# Altium schematic symbol library Logic-ICs.SchLib: 3 symbols
Pins are listed as number, name and electrical type; pins without a type are passive.

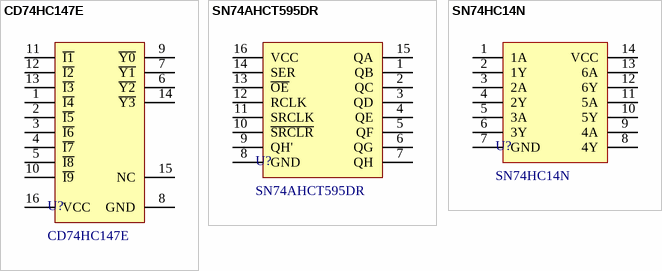
[diagram p0: symbols CD74HC147E to SN74HC14N]

## CD74HC147E
designator U?
IC PRIORITY ENCOD 1 X 10:4 16DIP; Manufacturer: Texas Instruments; Package Body Material: Plastic; Output Polarity: True; Logic Type: ENCODER; Number of Bits: 9; Channels: 1; Propagation Delay (tpd): 240ns; Max Supply Voltage: 6V; Min Supply Voltage: 2V; Nominal Supply Voltage: 4.5V; Surface Mount: No; Package Equivalence Code: DIP16,.3; Power Supplies: 2/6V; Qualification Status: Not Qualified; Supplier: Digikey; Supplier Part Number: 296-14513-5-ND; Manufacturer Part Number: CD74HC147E; RoHS: Yes; Category: Logic ICs; Stock: 2286; Pricing: 1=0.48, 10=0.424, 25=0.3984, 100=0.3251, 250=0.302, 500=0.25702, 1000=0.22625 (USD); Case/Package: DIP; Pins: 16; Package Shape: Rectangular; Terminal Finish: Nickel; Min Operating Temperature: -55°C; Max Operating Temperature: 125°C; JESD-30 Code: R-PDIP-T16; Package Style: IN-LINEMeter; Technology: CMOS; Terminal Form: Through Hole; Terminal Position: DUAL; JESD-609 Code: e4; Length: 19.305mm; Width: 7.62mm; Height - Seated (Max): 5.08mm; Terminal Pitch: 2.54mm; Temperature Grade: MILITARY; Reach SVHC Compliant: Yes; RoHS Compliant: Yes; ComponentLink1URL: https://www.ti.com:443/lit/ds/symlink/cd54hc147.pdf?src-supplier=IHS+Markit; ComponentLink1Description: https://www.ti.com:443/lit/ds/symlink/cd54hc147.pdf?src-supplier=IHS+Markit; ComponentLink2URL: https://datasheet.ciiva.com/15091/getdatasheetpartid-69732-15091985.pdf?src-supplier=Verical; ComponentLink2Description: https://datasheet.ciiva.com/15091/getdatasheetpartid-69732-15091985.pdf?src-supplier=Verical; ComponentLink3URL: https://datasheet.ciiva.com/19456/897049-19456870.pdf?src-supplier=Jameco; ComponentLink3Description: https://datasheet.ciiva.com/19456/897049-19456870.pdf?src-supplier=Jameco; ComponentLink4URL: https://datasheet.ciiva.com/1889/cd74hc147-1889593.pdf?src-supplier=Digikey; ComponentLink4Description: https://datasheet.ciiva.com/1889/cd74hc147-1889593.pdf?src-supplier=Digikey; ComponentLink5URL: https://datasheet.ciiva.com/1507/1831453-1507332.pdf?src-supplier=Element14; ComponentLink5Description: https://datasheet.ciiva.com/1507/1831453-1507332.pdf?src-supplier=Element14
footprint PDIP-16 (DIP, 16-Leads, Body 19.7x6.6mm, Pitch 2.54mm)
pins: 1 ~{I4}, 2 ~{I5}, 3 ~{I6}, 4 ~{I7}, 5 ~{I8}, 6 ~{Y2}, 7 ~{Y1}, 8 GND, 9 ~{Y0}, 10 ~{I9}, 11 ~{I1}, 12 ~{I2}, 13 ~{I3}, 14 ~{Y3}, 15 NC, 16 VCC

## SN74AHCT595DR
designator U?
IC SHIFT REGISTER 8BIT 16-SOIC; Manufacturer: Texas Instruments; Package Body Material: Plastic; Output Polarity: True; Clock Edge Trigger Type: Positive Edge; Count Direction: RIGHT; fmax-Min: 115MHz; Load/Preset Input: Yes; Logic Type: SERIAL IN PARALLEL OUT; Max Frequency@Nom-Sup: 85MHz; Number of Bits: 8; Channels: 1; Output Characteristics: 3-STATE; Package Equivalence Code: SOP16,.25; Power Supplies: 5V; Propagation Delay (tpd): 11.4ns; Max Supply Voltage: 5.5V; Min Supply Voltage: 4.5V; Qualification Status: Not Qualified; Supplier: Digikey; Supplier Part Number: 296-26428-1-ND; Manufacturer Part Number: SN74AHCT595DR; RoHS: Yes; Category: Shift Registers; Stock: 11310; Pricing: 1=0.44, 10=0.308, 25=0.2748, 100=0.2381, 250=0.22056, 500=0.21004, 1000=0.20137 (USD); Case/Package: SOP; Pins: 16; Package Shape: Rectangular; Terminal Finish: Nickel; Min Operating Temperature: -40°C; Max Operating Temperature: 85°C; JESD-609 Code: e4; JESD-30 Code: R-PDSO-G16; Moisture Sensitivity Level: 1; Package Style: SMALL OUTLINEMeter; Peak Reflow Temperature (Cel): 260°C; Nominal Supply Voltage: 5V; Surface Mount: Yes; Technology: CMOS; Terminal Form: Gull Wing; Terminal Position: DUAL; Length: 9.9mm; Width: 3.9mm; Height - Seated (Max): 1.75mm; Terminal Pitch: 1.27mm; Temperature Grade: INDUSTRIAL; Reach SVHC Compliant: Yes; RoHS Compliant: Yes; ComponentLink1URL: https://www.ti.com:443/lit/ds/symlink/sn74ahct595.pdf?src-supplier=IHS+Markit; ComponentLink1Description: https://www.ti.com:443/lit/ds/symlink/sn74ahct595.pdf?src-supplier=IHS+Markit; ComponentLink2URL: https://datasheet.ciiva.com/41456/001016299-da-01-en-ic-8bit-shft-s-sn74ahct595dr-soic-16-tid-41456742.pdf?src-supplier=Conrad; ComponentLink2Description: https://datasheet.ciiva.com/41456/001016299-da-01-en-ic-8bit-shft-s-sn74ahct595dr-soic-16-tid-41456742.pdf?src-supplier=Conrad; ComponentLink3URL: https://datasheet.ciiva.com/1886/sn74ahct595-1886285.pdf?src-supplier=Digikey; ComponentLink3Description: https://datasheet.ciiva.com/1886/sn74ahct595-1886285.pdf?src-supplier=Digikey; ComponentLink4URL: https://datasheet.ciiva.com/1886/sn74ahct595-1886286.pdf?src-supplier=Digikey; ComponentLink4Description: https://datasheet.ciiva.com/1886/sn74ahct595-1886286.pdf?src-supplier=Digikey; ComponentLink5URL: https://datasheet.ciiva.com/1886/sn74ahct595-1886287.pdf?src-supplier=Digikey; ComponentLink5Description: https://datasheet.ciiva.com/1886/sn74ahct595-1886287.pdf?src-supplier=Digikey
footprint 16-SOIC_3MM90W
pins: 1 QB, 2 QC, 3 QD, 4 QE, 5 QF, 6 QG, 7 QH, 8 GND, 9 QH', 10 ~{SRCLR}, 11 SRCLK, 12 RCLK, 13 ~{OE}, 14 SER, 15 QA, 16 VCC

## SN74HC14N
designator U?
IC INVERT SCHMITT 6CH 1INP 14DIP; Manufacturer: Texas Instruments; Package Body Material: Plastic; Load Capacitance (CL): 50pF; Load/Preset Input: Yes; Logic Type: INVERTER; Max I(ol): 4mA; Channels: 6; Number of Inputs: 1; Package Equivalence Code: DIP14,.3; Power Supplies: 2/6V; Prop. Delay@Nom-Sup: 31ns; Propagation Delay (tpd): 155ns; Max Supply Voltage: 6V; Min Supply Voltage: 2V; Nominal Supply Voltage: 5V; Surface Mount: No; Qualification Status: Not Qualified; Supplier: Digikey; Supplier Part Number: 296-1577-5-ND; Manufacturer Part Number: SN74HC14N; RoHS: Yes; Category: Logic ICs; Stock: 7332; Pricing: 1=0.98, 10=0.876, 25=0.8316, 100=0.683, 250=0.63844, 500=0.56418, 1000=0.44541, 2500=0.41572, 5000=0.39493 (USD); Case/Package: DIP; Pins: 14; Package Shape: Rectangular; Terminal Finish: Tin; Min Operating Temperature: -40°C; Max Operating Temperature: 85°C; JESD-609 Code: e3; JESD-30 Code: R-PDIP-T14; Package Style: IN-LINEMeter; Packaging: Rail/Tube; Schmitt Trigger: Yes; Technology: CMOS; Terminal Form: Through Hole; Terminal Position: DUAL; Length: 19.305mm; Width: 7.62mm; Height - Seated (Max): 5.08mm; Terminal Pitch: 2.54mm; Temperature Grade: INDUSTRIAL; Reach SVHC Compliant: Yes; RoHS Compliant: Yes; ComponentLink1URL: https://www.ti.com:443/lit/ds/symlink/sn54hc14-sp.pdf?src-supplier=IHS+Markit; ComponentLink1Description: https://www.ti.com:443/lit/ds/symlink/sn54hc14-sp.pdf?src-supplier=IHS+Markit; ComponentLink2URL: https://datasheet.ciiva.com/7783/1695231-7783059.pdf?src-supplier=Element14; ComponentLink2Description: https://datasheet.ciiva.com/7783/1695231-7783059.pdf?src-supplier=Element14; ComponentLink3URL: https://datasheet.ciiva.com/7367/1764130-7367534.pdf?src-supplier=Newark; ComponentLink3Description: https://datasheet.ciiva.com/7367/1764130-7367534.pdf?src-supplier=Newark; ComponentLink4URL: https://datasheet.ciiva.com/1865/sn74hc14-1865973.pdf?src-supplier=Digikey; ComponentLink4Description: https://datasheet.ciiva.com/1865/sn74hc14-1865973.pdf?src-supplier=Digikey
footprint 14-PDIP
pins: 1 1A, 2 1Y, 3 2A, 4 2Y, 5 3A, 6 3Y, 7 GND, 8 4Y, 9 4A, 10 5Y, 11 5A, 12 6Y, 13 6A, 14 VCC